# Altium footprint library IRFZ48NPBF.PcbLib: 1 footprints
Each footprint in its own frame and in the unit in brackets; x right, y up, seen from the top. Pads: shape width x height; smd on the part's side, far side on the other; paste and mask are expansions set on the pad; w line width, h text height; cw(c..) or ccw(c..) is an arc to the next point about the centre after c.
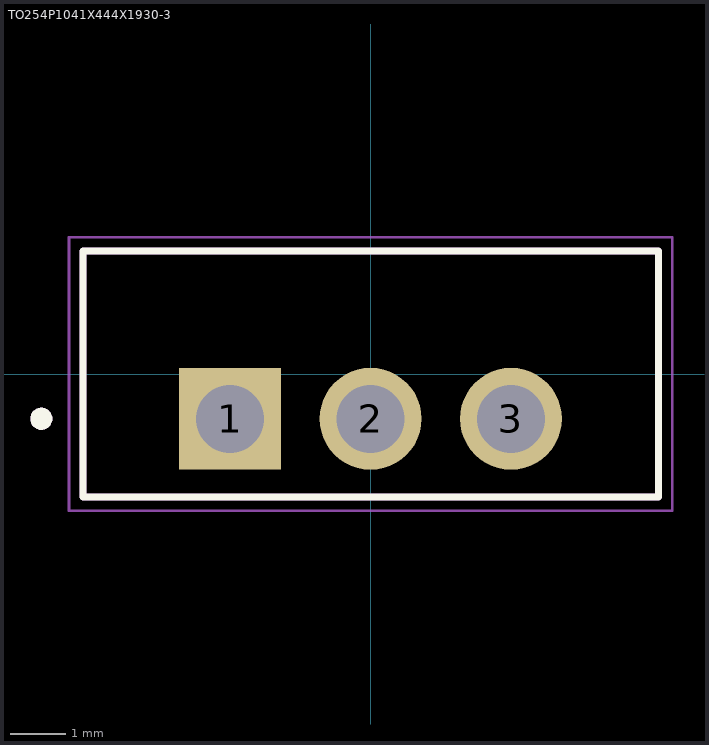
[diagram p0: the footprint, top view; thin cyan lines are the x and y axes]

## TO254P1041X444X1930-3 [mm]
pads (3):
  rect 1.845x1.845 hole 1.23: 1(-2.54,-0.81)
  round 1.845 hole 1.23: 2(0,-0.81) 3(2.54,-0.81)
Top Overlay:
  circle w0.2: c-5.957,-0.81 r0.1
  lines w0.127: -5.208,-2.222 5.208,-2.222 5.208,2.222 -5.208,2.222 -5.208,-2.222
Mechanical 13:
  circle w0.2: c-5.957,-0.81 r0.1
  lines w0.127: -5.208,-2.222 5.208,-2.222 5.208,2.222 -5.208,2.222 -5.208,-2.222
Mechanical 15:
  lines w0.05: -5.457,-2.472 -5.457,2.472 5.457,2.472 5.457,-2.472 -5.457,-2.472
3D body "step_temp.STEP": height 19.3, standoff -10.03, extent -5.207,-2.222 5.207,2.222